# Altium footprint library Sensor Package.PcbLib: 119 footprints (part 6 of 8)
Each footprint in its own frame and in the unit in brackets; x right, y up, seen from the top. Pads: shape width x height; smd on the part's side, far side on the other; paste and mask are expansions set on the pad; w line width, h text height; cw(c..) or ccw(c..) is an arc to the next point about the centre after c.
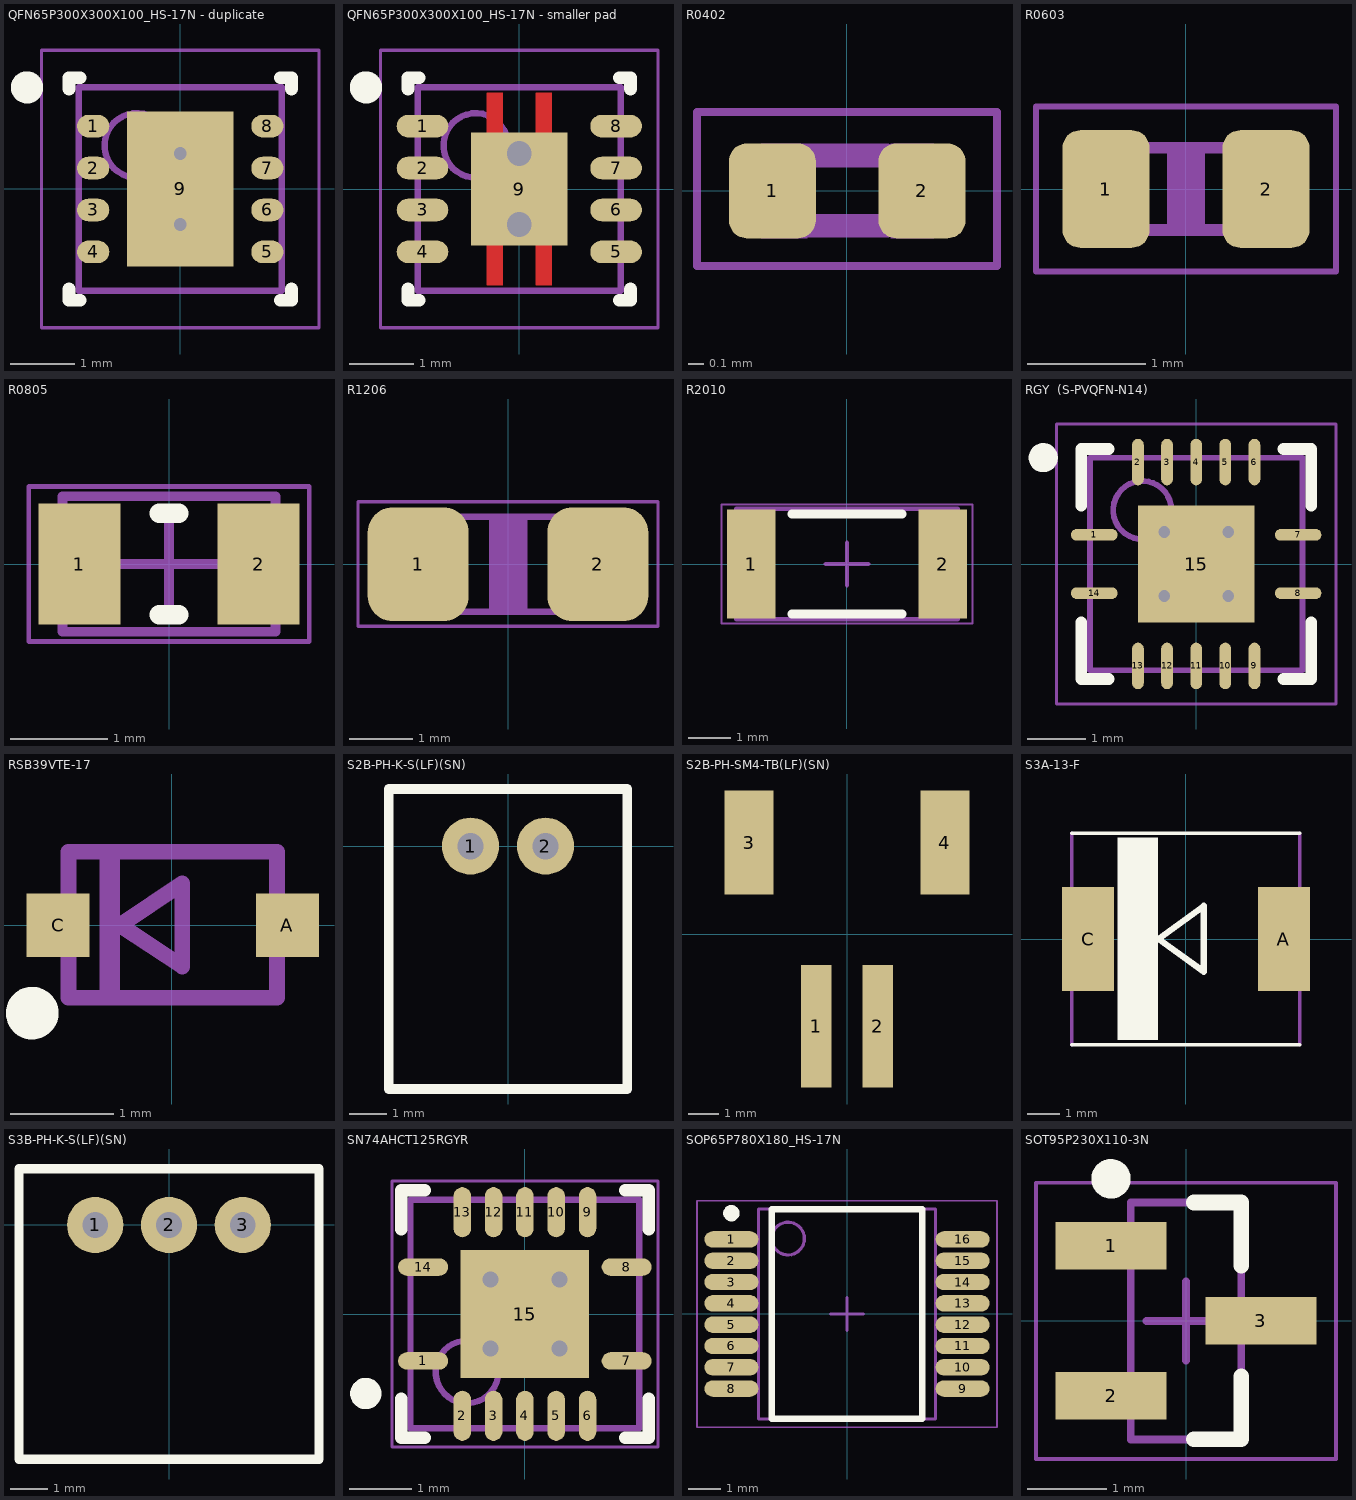
[diagram p5: the footprints below, top view; thin cyan lines are the x and y axes]

## QFN65P300X300X100_HS-17N - duplicate [mm] "QFN, 16-Leads, Body 3.00x3.00mm, Pitch 0.65mm, Thermal Pad 2.40x1.65mm, IPC Medium Density"
height 1
pads (9):
  oval 0.5x0.35 smd: 1(-1.35,0.975) 2(-1.35,0.325) 3(-1.35,-0.325) 4(-1.35,-0.975) 5(1.35,-0.975) 6(1.35,-0.325) 7(1.35,0.325) 8(1.35,0.975)
  rect 1.65x2.4 smd: 9(0,0)
via 0,-0.55 diameter 0.5 hole 0.2
via 0,0.55 diameter 0.5 hole 0.2
Top Overlay:
  circle w0.25: c-2.375,1.575 r0.125
  lines w0.2: -1.725,-1.55 -1.725,-1.725 -1.55,-1.725 ; -1.725,1.55 -1.725,1.725 -1.55,1.725 ; 1.55,-1.725 1.725,-1.725 1.725,-1.55 ; 1.55,1.725 1.725,1.725 1.725,1.55
Mechanical 13:
  circle w0.1: c-0.675,0.675 r0.5
  lines w0.1: -1.575,-1.575 1.575,-1.575 1.575,1.575 -1.575,1.575 -1.575,-1.575
Mechanical 15:
  lines w0.05: -2.15,-2.15 2.15,-2.15 2.15,2.15 -2.15,2.15 -2.15,-2.15
  lines w0.1: -0.5,0 0.5,0 ; 0,-0.5 0,0.5
3D body: height 1, standoff 0.05, extent -1.575,-1.575 1.575,1.575

## QFN65P300X300X100_HS-17N - smaller pad [mm] "QFN, 16-Leads, Body 3.00x3.00mm, Pitch 0.65mm, Thermal Pad 1.75x1.50mm, IPC Medium Density"
height 1
pads (9):
  oval 0.8x0.35 smd: 1(-1.5,0.975) 2(-1.5,0.325) 3(-1.5,-0.325) 4(-1.5,-0.975) 5(1.5,-0.975) 6(1.5,-0.325) 7(1.5,0.325) 8(1.5,0.975)
  rect 1.5x1.75 smd: 9(0,0)
via 0,-0.55 diameter 0.635 hole 0.381
via 0,0.55 diameter 0.635 hole 0.381
Top Layer:
  rectangle: -0.508,0.864 -0.254,1.499
  rectangle: 0.254,0.864 0.508,1.499
  rectangle: 0.254,-1.499 0.508,-0.864
  rectangle: -0.508,-1.499 -0.254,-0.864
Top Overlay:
  circle w0.25: c-2.375,1.575 r0.125
  lines w0.2: -1.725,-1.55 -1.725,-1.725 -1.55,-1.725 ; -1.725,1.55 -1.725,1.725 -1.55,1.725 ; 1.55,-1.725 1.725,-1.725 1.725,-1.55 ; 1.55,1.725 1.725,1.725 1.725,1.55
Mechanical 13:
  circle w0.1: c-0.675,0.675 r0.5
  lines w0.1: -1.575,-1.575 1.575,-1.575 1.575,1.575 -1.575,1.575 -1.575,-1.575
Mechanical 15:
  lines w0.05: -2.15,-2.15 2.15,-2.15 2.15,2.15 -2.15,2.15 -2.15,-2.15
  lines w0.1: -0.5,0 0.5,0 ; 0,-0.5 0,0.5
3D body: height 1, standoff 0.05, extent -1.575,-1.575 1.575,1.575

## R0402 [mil]
pads (2):
  rrect40% 22x24 smd: 1(-18.9,0) 2(19,0)
Mechanical 8:
  rectangle: 11,-12 22,12
  rectangle: -21.81,-12 -10,12
  lines w6: -9.65,-8.82 10,-8.82 ; -9.65,9 10,9
Mechanical 15:
  lines w2: -37.99,-19.02 -37.99,20 38,20 38,-19.02 -37.99,-19.02
3D body: height 13.78, standoff 0, extent -20,-10 20,10

## R0603 [mm]
pads (2):
  rrect40% 0.74x1 smd: 1(-0.68,0) 2(0.68,0)
Mechanical 6:
  rectangle: -0.16,-0.3 0.16,0.3
Mechanical 8:
  rectangle: 0.45,-0.4 0.8,0.4
  rectangle: -0.8,-0.4 -0.45,0.4
  lines w0.1: -0.45,0.35 0.45,0.35
  lines w0.102: -0.45,-0.35 0.45,-0.35
Mechanical 15:
  lines w0.051: -1.275,-0.7 -1.275,0.7 1.275,0.7 1.275,-0.7 -1.275,-0.7
3D body: height 0.8, standoff 0, extent -0.8,-0.4 0.8,0.4

## R0805 [mm]
height 0.5
pads (2):
  rect 0.85x1.25 smd: 1(-0.925,0) 2(0.925,0)
Top Overlay:
  lines w0.2: -0.1,-0.525 0.1,-0.525 ; -0.1,0.525 0.1,0.525
Mechanical 13:
  lines w0.1: -1.1,-0.7 1.1,-0.7 1.1,0.7 -1.1,0.7 -1.1,-0.7
Mechanical 15:
  lines w0.05: -1.45,-0.8 1.45,-0.8 1.45,0.8 -1.45,0.8 -1.45,-0.8
  lines w0.1: -0.5,0 0.5,0 ; 0,-0.5 0,0.5
3D body: height 0.5, standoff 0, extent 0.75,-0.7 1.1,0.7
3D body: height 0.5, standoff 0, extent -1.1,-0.7 -0.75,0.7
3D body: height 0.5, standoff 0, extent -0.75,-0.7 0.75,0.7

## R1206 [mil]
pads (2):
  rrect50% 63x71 smd: 1(-55.98,0) 2(56,0)
Mechanical 6:
  rectangle: -11.81,-27.56 12,28
Mechanical 8:
  rectangle: -61.02,-31.5 -32.02,31.5
  rectangle: 32.02,-31.5 61.02,31.5
  lines w3.94: -40.35,29.53 35.65,29.53 ; -34.66,-29.53 41.34,-29.53
Mechanical 15:
  lines w2: -93.5,-38.7 93.5,-38.7 93.5,39 -93.5,39 -93.5,-38.7
3D body: height 23.62, standoff 0, extent -61.02,-31.5 61.02,31.5

## R2010 [mm]
height 0.75
pads (2):
  rect 1.15x2.55 smd: 1(-2.25,0) 2(2.25,0)
Top Overlay:
  lines w0.2: -1.3,-1.175 1.3,-1.175 ; -1.3,1.175 1.3,1.175
Mechanical 13:
  lines w0.1: -2.6,-1.3 -2.6,1.3 2.6,1.3 2.6,-1.3 -2.6,-1.3
Mechanical 15:
  lines w0.05: -2.95,-1.4 -2.95,1.4 2.95,1.4 2.95,-1.4 -2.95,-1.4
  lines w0.1: -0.5,0 0.5,0 ; 0,-0.5 0,0.5
3D body: height 0.75, standoff 0, extent -2.1,-1.3 2.1,1.3
3D body: height 0.75, standoff 0, extent -2.6,-1.3 -2.1,1.3
3D body: height 0.75, standoff 0, extent 2.1,-1.3 2.6,1.3

## RGY  (S-PVQFN-N14) [mm] "QFN, 16-Leads, Body 3.50x3.50mm, Pitch 0.50mm, Thermal Pad 2.00x2.00mm, IPC Medium Density"
height 1
pads (15):
  oval 0.8x0.2 smd: 1(-1.75,0.5) 7(1.75,0.5) 8(1.75,-0.5) 14(-1.75,-0.5)
  oval 0.2x0.8 smd: 2(-1,1.75) 3(-0.5,1.75) 4(0,1.75) 5(0.5,1.75) 6(1,1.75) 9(1,-1.75) 10(0.5,-1.75) 11(0,-1.75) 12(-0.5,-1.75) 13(-1,-1.75)
  rect 2x2 smd: 15(0,0)
via 0.55,-0.55 diameter 0.5 hole 0.2
via -0.55,-0.55 diameter 0.5 hole 0.2
via 0.55,0.55 diameter 0.5 hole 0.2
via -0.55,0.55 diameter 0.5 hole 0.2
Top Overlay:
  circle w0.25: c-2.625,1.825 r0.125
  lines w0.2: -1.975,-1 -1.975,-1.975 -1.5,-1.975 ; -1.975,1 -1.975,1.975 -1.5,1.975 ; 1.5,-1.975 1.975,-1.975 1.975,-1 ; 1.5,1.975 1.975,1.975 1.975,1
Mechanical 13:
  circle w0.1: c-0.925,0.925 r0.5
  lines w0.1: -1.825,-1.825 1.825,-1.825 1.825,1.825 -1.825,1.825 -1.825,-1.825
Mechanical 15:
  lines w0.05: -2.4,-2.4 2.4,-2.4 2.4,2.4 -2.4,2.4 -2.4,-2.4
  lines w0.1: -0.5,0 0.5,0 ; 0,-0.5 0,0.5
3D body: height 1, standoff 0.05, extent -1.825,-1.825 1.825,1.825

## RSB39VTE-17 [mil] "SOD323-R"
height 23.62
pads (2):
  rect 24x24 smd: A(44,0) C(-43.31,0)
Top Overlay:
  circle w10: c-53.15,-33.46 r5.02
Mechanical 8:
  rectangle: -27.56,-27.56 -19.69,28
  lines w6: -39.37,-27.56 40,-27.56 40,28 -39.37,28 -39.37,-27.56 ; -19.69,0 4,16 4,-15.75 -19.69,0
3D body: height 27.56, standoff 0, extent -42.37,-30.56 43,31
3D body: height 15.75, standoff 0, extent -50,-5 -35,5
3D body: height 15.75, standoff 0, extent 35,-5 50,5

## S2B-PH-K-S(LF)(SN) [mm] "S2B-PH-K-S(LF)(SN)"
pads (2):
  round 1.524 hole 0.7: 1(-1,0) 2(1,0)
Top Overlay:
  lines w0.254: -3.175,-6.477 -3.175,1.524 3.048,1.524 3.175,1.524 3.175,-6.477 -3.175,-6.477
3D body "S2B-PH-K-S.STEP": height 4.8, standoff -3.4, extent -2.95,-6.254 2.95,1.346

## S2B-PH-SM4-TB(LF)(SN) [mm] "CONN HEADER PH SIDE 2POS 2MM SMD"
pads (4):
  rect 1x4 smd: 1(-1,-3) 2(1,-3)
  rect 1.6x3.4 smd: 3(-3.2,3) 4(3.2,3)
3D body "S2B-PH-SM4-TB.STEP": height -0.5, standoff -6.1, extent -3.95,-4.155 3.95,4.445

## S3A-13-F [mil] "S3A-13-F  DO-214AB"
pads (2):
  rect 63x126 smd: A(119,0) C(-118.11,0)
Top Overlay:
  rectangle: -82.68,-122.05 -33.46,123
  lines w4: -137.8,-127.95 138,-127.95 ; -137.8,128 138,128
  lines w8: -32.68,0 22,-39.37 22,40 -32.68,0
Mechanical 8:
  rectangle: 116,-43 137,43
  rectangle: -136.18,-43 -115.18,43
  lines w4: -137.8,-127.95 -137.8,128 ; 138,-127.95 138,128
3D body: height 98.43, standoff 0, extent -139.8,-129.95 140,130

## S3B-PH-K-S(LF)(SN) [mil] "3 Pin right angle 2mm pitch shrouded male pin connector"
pads (3):
  round 60 hole 27.56: 1(-78.74,0) 2(0,0) 3(78.74,0)
Top Overlay:
  lines w10: -160,-250 -160,60 160,60 160,-250 -160,-250
3D body "S3B-PH-K-S.STEP": height 188.98, standoff -133.86, extent -155.51,-245 155.51,54.21

## SN74AHCT125RGYR [mm] "QFN, 14-Leads, Body 3.50x3.50mm, Pitch 1.50mm/0.50mm, Thermal Pad 2.05x2.05mm, IPC High Density"
height 1
pads (15):
  oval 0.8x0.28 smd: 1(-1.625,-0.75) 7(1.625,-0.75) 8(1.625,0.75) 14(-1.625,0.75)
  oval 0.28x0.8 smd: 2(-1,-1.625) 3(-0.5,-1.625) 4(0,-1.625) 5(0.5,-1.625) 6(1,-1.625) 9(1,1.625) 10(0.5,1.625) 11(0,1.625) 12(-0.5,1.625) 13(-1,1.625)
  rect 2.05x2.05 smd: 15(0,0)
via -0.55,-0.55 diameter 0.635 hole 0.254
via -0.55,0.55 diameter 0.635 hole 0.254
via 0.55,-0.55 diameter 0.635 hole 0.254
via 0.55,0.55 diameter 0.635 hole 0.254
Top Overlay:
  circle w0.25: c-2.54,-1.27 r0.125
  lines w0.2: -1.975,-1.35 -1.975,-1.975 -1.6,-1.975 ; -1.975,1.35 -1.975,1.975 -1.6,1.975 ; 1.6,-1.975 1.975,-1.975 1.975,-1.35 ; 1.6,1.975 1.975,1.975 1.975,1.35
Top Solder:
  rectangle: -1.346,-2.134 1.295,2.134
Mechanical 13:
  circle w0.1: c-0.925,-0.925 r0.5
  lines w0.1: -1.825,-1.825 1.825,-1.825 1.825,1.825 -1.825,1.825 -1.825,-1.825
Mechanical 15:
  lines w0.05: -2.125,-2.125 2.125,-2.125 2.125,2.125 -2.125,2.125 -2.125,-2.125
  lines w0.1: -0.5,0 0.5,0 ; 0,-0.5 0,0.5
3D body: height 1, standoff 0.08, extent -1.825,-1.825 1.825,1.825

## SOP65P780X180_HS-17N [mm] "SOP, 16-Leads, Body 6.20x5.30mm, Pitch 0.65mm, Thermal Pad 5.22x3.10mm, IPC Medium Density"
height 1.8
pads (16):
  oval 1.65x0.5 smd: 1(-3.525,2.275) 2(-3.525,1.625) 3(-3.525,0.975) 4(-3.525,0.325) 5(-3.525,-0.325) 6(-3.525,-0.975) 7(-3.525,-1.625) 8(-3.525,-2.275) 9(3.525,-2.275) 10(3.525,-1.625) 11(3.525,-0.975) 12(3.525,-0.325) 13(3.525,0.325) 14(3.525,0.975) 15(3.525,1.625) 16(3.525,2.275)
Top Overlay:
  circle w0.25: c-3.525,3.075 r0.125
  lines w0.2: -2.3,-3.2 -2.3,3.2 2.3,3.2 2.3,-3.2 -2.3,-3.2
Mechanical 13:
  circle w0.1: c-1.8,2.3 r0.5
  lines w0.1: -2.7,-3.2 -2.7,3.2 2.7,3.2 2.7,-3.2 -2.7,-3.2
Mechanical 15:
  lines w0.05: -4.575,-3.45 -4.575,3.45 4.575,3.45 4.575,-3.45 -4.575,-3.45
  lines w0.1: -0.5,0 0.5,0 ; 0,-0.5 0,0.5
3D body: height 1.8, standoff 0.1, extent -2.7,-3.2 2.7,3.2

## SOT95P230X110-3N [mm]
pads (3):
  rect 1.4x0.6 smd: 1(-0.95,0.95) 2(-0.95,-0.95) 3(0.95,0)
Top Overlay:
  circle w0.25: c-0.95,1.8 r0.125
  lines w0.2: 0.1,-1.5 0.7,-1.5 0.7,-0.7 ; 0.1,1.5 0.7,1.5 0.7,0.7
Mechanical 13:
  lines w0.1: -0.7,-1.5 0.7,-1.5 0.7,1.5 -0.7,1.5 -0.7,-1.5
Mechanical 15:
  lines w0.05: -1.9,-1.75 1.9,-1.75 1.9,1.75 -1.9,1.75 -1.9,-1.75
  lines w0.1: -0.5,0 0.5,0 ; 0,-0.5 0,0.5
3D body: height 1.1, standoff 0.1, extent -0.7,-1.5 0.7,1.5